# EAGLE library part RPA60-2412SFW-HC (library RPA60-2412SFW-HC)
Isolated DC/DC Converters 60W 9-36Vin 12Vout 5A Source: Datasheet <https://componentsearchengine.com/Datasheets/1/RPA60-2412SFW-HC.pdf>
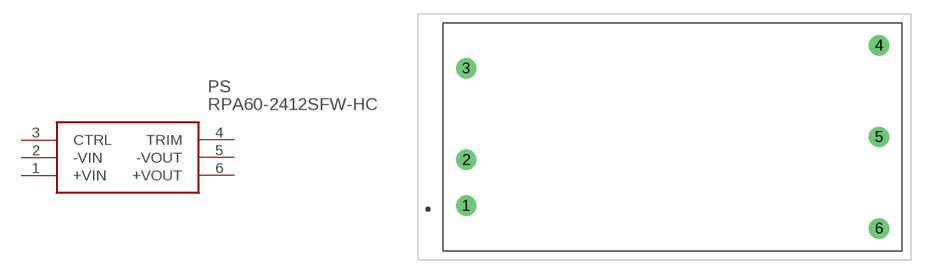
[diagram p0: symbol with the pads of RPA602412SFWHC; footprint RPA602412SFWHC]

Designator prefix PS

## RPA60-2412SFW-HC (Description: Isolated DC/DC Converters 60W 9-36Vin 12Vout 5A; Height: 10.7mm; Manufacturer_Name: RECOM Power; Manufacturer_Part_Number: RPA60-2412SFW-HC; Mouser_Part_Number: 919-RPA60-2412SFW-HC; Mouser_Price-Stock: https://www.mouser.co.uk/ProductDetail/RECOM-Power/RPA60-2412SFW-HC?qs=FLBwGrBR9%252B1HOZNjXa%252B%252BWg%3D%3D)  [RPA602412SFWHC]
1  +VIN
2  -VIN
3  CTRL
4  TRIM
5  -VOUT
6  +VOUT

## Footprint RPA602412SFWHC (pad centres in mm)
RPA60-2412SFW-HC-2
drill 1.5 pad 2.25: 1 0,0; 2 0,5.08; 3 0,15.24; 4 45.72,17.78; 5 45.72,7.62; 6 45.72,-2.54